# Altium footprint library Relay19x15.5.PcbLib: 1 footprints
Each footprint in its own frame and in the unit in brackets; x right, y up, seen from the top. Pads: shape width x height; smd on the part's side, far side on the other; paste and mask are expansions set on the pad; w line width, h text height; cw(c..) or ccw(c..) is an arc to the next point about the centre after c.
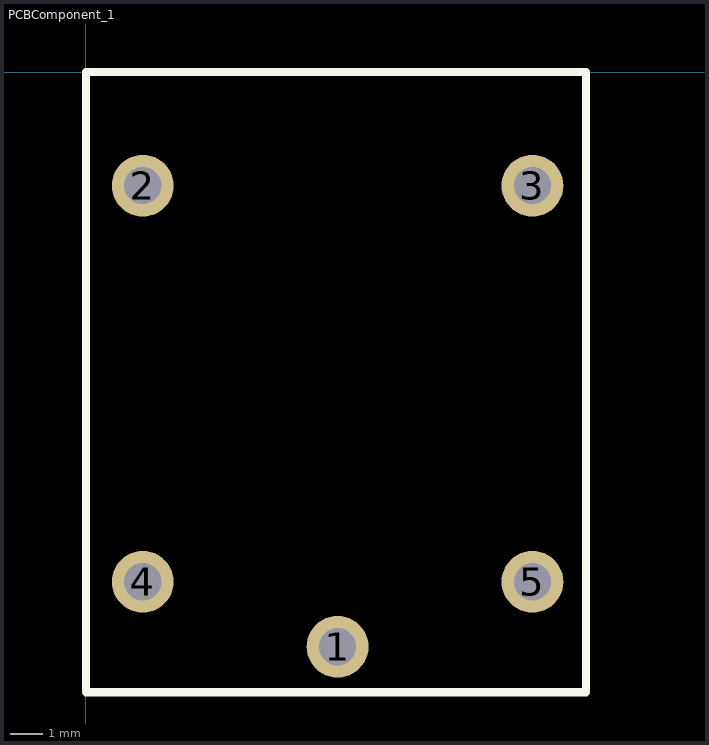
[diagram p0: the footprint, top view; thin cyan lines are the x and y axes]

## PCBComponent_1 [mm]
pads (5):
  round 1.905 hole 1.143: 1(7.75,-17.7) 2(1.75,-3.5) 3(13.75,-3.5) 4(1.75,-15.7) 5(13.75,-15.7)
Top Layer:
  region: 0,-18.55
  region: 16.51,0.5
Top Overlay:
  lines w0.254: 0,-19.1 0,0 15.4,0 15.4,-19.1 0,-19.1